# Altium schematic symbol library Diodo.SchLib: 49 symbols (part 1 of 2)
Pins are listed as number, name and electrical type; pins without a type are passive.

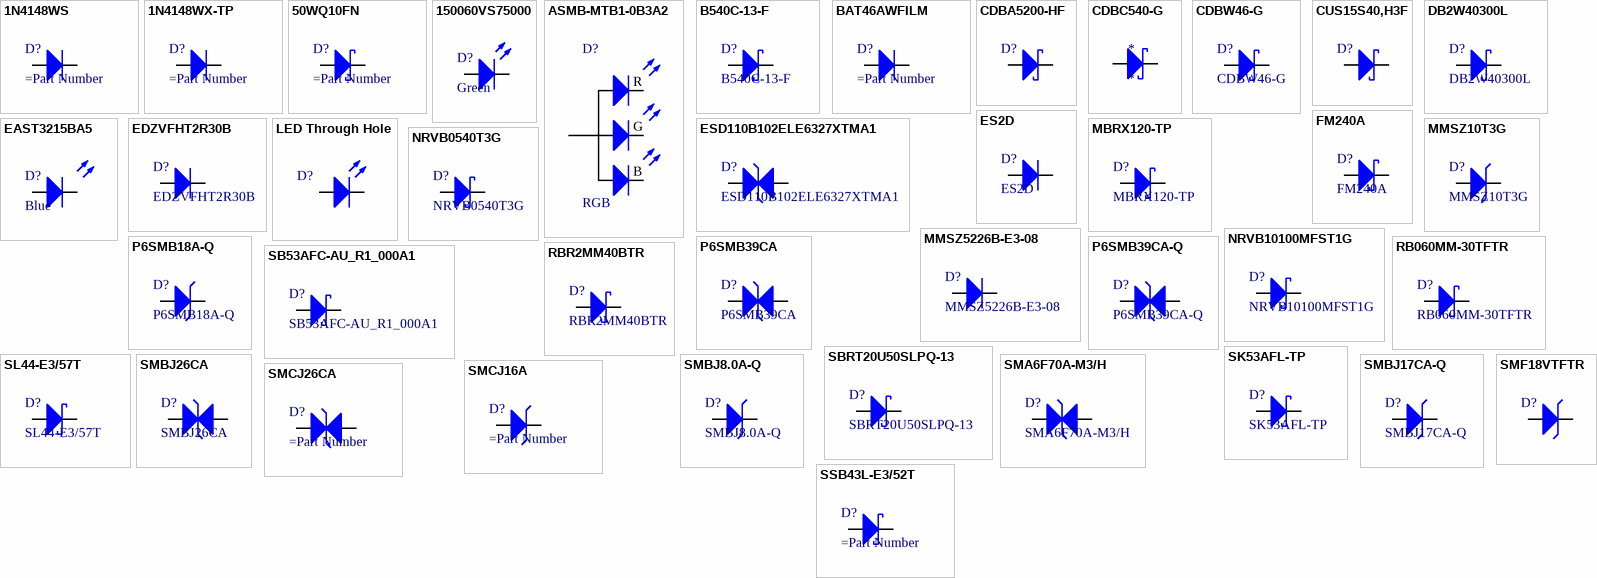
[diagram p0: symbols 1N4148WS to SSB43L-E3/52T]

## 1N4148WS
designator D?
DIODE GEN PURP 75V 0.15A SOD-323F-2; Manufacturer: onsemi; Manufacturer Part Number: 1N4148WS; Pirce: 1=0.20, 10=0.18, 100=0.095 [USD]; Max Forward Surge Current (Ifsm): 4 A; Current - Reverse Leakage @ Vr: 5 uA; Voltage - Forward (Vf) (Max) @ If: 1 V; Diode Type: General Purpose; Recovery Time: 4 ns; Library Control - Checked Footprint: Yes; Library Control - Person that Checked Footprint: Juliana; Supplier 1: Mouser; Category: General Purpose; Package / Case: SOD-323F-2; Current - Average Rectified (Io): 0.15 A; Operating Temperature: -55°C ~ +150°C; Voltage - DC Reverse (Vr) (Max): 75 V; Library Ref: Diode; Supplier Part Number 1: 512-1N4148WS; Library Control - Checked Schematic: Yes; Library Control - Last Update: 12/08/2022; Library Control - Person that Checked Schematic: Juliana; Library Control - Person that did the Last Update Footprint: Juliana; Library Control - Person that did the Last Update Schematic: Juliana; Power Dissipation: *; Speed: *; Capacitance @ Vr, F: *; ComponentLink1Description: Mouser Link; ComponentLink1URL: https://br.mouser.com/ProductDetail/onsemi-Fairchild/1N4148WS?qs=2%2FYqgE%252BHg%252BKBrKZlAsMLhw%3D%3D; ComponentLink2Description: Datasheet; ComponentLink2URL: https://www.onsemi.com/pdf/datasheet/1n4148ws-d.pdf
footprint SOD-323F-2
pins: 1 C, 2 A

## 1N4148WX-TP
designator D?
DIODE GEN PURP 75V 300mA SOD-323; Manufacturer: Micro Commercial Components; Manufacturer Part Number: 1N4148WX-TP; Max Forward Surge Current (Ifsm): 2 A; Current - Reverse Leakage @ Vr: 5 uA; Voltage - Forward (Vf) (Max) @ If: 1 V; Diode Type: General Purpose; Recovery Time: 4 ns; Library Control - Checked Footprint: Yes; Library Control - Person that Checked Footprint: Juliana; Supplier 1: Mouser; Category: General Purpose, Power, Switching; Price: 1=0.19, 10=0.173, 100=0.095 [USD]; Package / Case: SOD-323; Operating Temperature: -55°C ~ +150°C; Voltage - DC Reverse (Vr) (Max): 75 V; Library Ref: Diode; Supplier Part Number 1: 833-1N4148WX-TP; Library Control - Checked Schematic: Yes; Library Control - Last Update: 15/08/2022; Library Control - Person that Checked Schematic: Juliana; Library Control - Person that did the Last Update Footprint: Juliana; Library Control - Person that did the Last Update Schematic: Juliana; Power Dissipation: *; Speed: *; Capacitance @ Vr, F: *; ComponentLink1Description: Mouser Link; ComponentLink1URL: https://br.mouser.com/ProductDetail/Micro-Commercial-Components-MCC/1N4148WX-TP?qs=Vo7e0yZOYdH7fKyVBspYOg%3D%3D; ComponentLink2Description: Datasheet; ComponentLink2URL: https://br.mouser.com/datasheet/2/258/1N4148WX_SOD_323_-2510319.pdf
footprint SOD-323
pins: 1 C, 2 A

## 50WQ10FN
designator D?
DIODE SCHOTTKY 100V 5.5A TO-252AA; Manufacturer: Vishay; Manufacturer Part Number: 50WQ10FN; Max Forward Surge Current (Ifsm): 330 A; Current - Reverse Leakage @ Vr: 1 mA; Voltage - Forward (Vf) (Max) @ If: 910 mV; Diode Type: Schottky Diode; Library Control - Checked Footprint: Yes; Library Control - Person that Checked Footprint: Juliana; Supplier 1: Mouser; Category: Schottky Diodes & Rectifiers; Package / Case: D-Pak (TO-252AA); Current - Average Rectified (Io): 5.5 A; Operating Temperature: -40°C ~ +150°C; Voltage - DC Reverse (Vr) (Max): 100 V; Library Ref: Diode; Supplier Part Number 1: 844-50WQ10FN; Library Control - Checked Schematic: Yes; Library Control - Last Update: 12/08/2022; Library Control - Person that Checked Schematic: Juliana; Library Control - Person that did the Last Update Footprint: Juliana; Library Control - Person that did the Last Update Schematic: Juliana; Power Dissipation: *; Speed: *; Capacitance @ Vr, F: *; ComponentLink1Description: Mouser Link; ComponentLink1URL: https://br.mouser.com/ProductDetail/Vishay-Semiconductors/50WQ10FN?qs=hmVdEm9mfNch1tGAwNRyIQ%3D%3D; ComponentLink2Description: Datasheet; ComponentLink2URL: https://4donline.ihs.com/images/VipMasterIC/IC/VISH/VISH-S-A0003941566/VISH-S-A0003941566-1.pdf?hkey=6D3A4C79FDBF58556ACFDE234799DDF0
footprint TO-252AA
pins: A, C

## 150060VS75000
designator D?, comment Green
LED 72mW GREEN 40MCD 0603; Manufacturer: Wurth Elektronik; Part Number: 150060VS75000; Current - Forward (If): 20 mA; Voltage - Forward (Vf): 2 V; Viewing Angle: 140°; Wavelength: 570nm; Max Current Rating: 100mA; Reverse Voltage:: 5V; Library Control - Last Project that Used: Diodo/Led; Library Control - Person that Checked Footprint: Stéfany (Ster); Library Control - Person that did the Last Update Schematic: Marcos; Supplier 1: Mouser; Category: Standard LEDs - SMD; Price: 1 = 0.14, 50 = 0.133, 100 = 0.114 (USD); Package / Case: 0603; Color: Green; Operating Temperature: -40~85 °C; Luminous Intensity: 40 mcd; Library Ref: LED; Supplier Part Number 1: 710-150060VS75000; Max Power Dissipation: 72mW; Library Control - Checked Footprint: 25/07/2021; Library Control - Checked Schematic: 25/07/2021; Library Control - Last Update: 09/09/2021 16:12; Library Control - Person that Checked Schematic: Stéfany (Ster); Library Control - Person that did the Last Update Footprint: Stéfany (Ster); ComponentLink1Description: Mouser Link; ComponentLink1URL: https://br.mouser.com/ProductDetail/Wurth-Elektronik/150060VS75000?qs=%2Fha2pyFaduhuT%2FKGSijZP0vTyJZ9U993KfsBQSxqATYhY9jnc2c09tXoMoJ3wn4L; ComponentLink2Description: Datasheet Link; ComponentLink2URL: https://br.mouser.com/datasheet/2/445/150060VS75000-1714627.pdf
footprint LED_0603
pins: A, C

## ASMB-MTB1-0B3A2
designator D?, comment RGB
LED 65 mW, 90 mW RGB SMD PLCC4; Manufacturer: Broadcom Avago; Part Number: ASMB-MTB1-0B3A2; Current - Forward (If): 20 mA, 20 mA, 20 mA; Max Power Dissipation: 65 mW, 90 mW, 90 mW; Wavelenght: 625 nm, 530 nm, 470 nm; Voltage - Forward (Vf): 2.1 V, 3.1 V, 3.1 V; Viewing Angle: 115°; Library Control - Person that did the Last Update Schematic: Tatá; Supplier: Mouser; Supplier Part Number: 630-ASMB-MTB1-0B3A2; Category: RGB LEDs; Package / Case: PLCC-4; Color: RGB; Price: 1= $0.67 10 =$0.438 100=$0.29 (USD); Operating Temperature: -40 ~ 100 C; Library Ref: LED; Library Control - Person that did the Last Update Footprint: Tatá; Library Control - Person that Checked Schematic: *; Library Control - Person that Checked Footprint: *; Library Control - Last Update: 19/11/23; Library Control - Last Project that Used: *; Library Control - Checked Schematic: *; Library Control - Checked Footprint: *; ComponentLink1Description: Mouser; ComponentLink1URL: https://br.mouser.com/ProductDetail/Broadcom-Avago/ASMB-MTB1-0B3A2?qs=pUKx8fyJudDzsc2Rt%2Fv8dg%3D%3D; ComponentLink2Description: Datasheet; ComponentLink2URL: https://docs.broadcom.com/doc/AV02-4194EN
footprint PLCC4 RGB LED
pins: B Blue, G Green, R Red, VCC  

## B540C-13-F
designator D?
DIODE SCHOTTKY 40V 5A DO-214AB; Manufacturer: Diodes Incorporated; Max Forward Surge Current (Ifsm): 100 A; Current - Reverse Leakage @ Vr: 500 uA; Voltage - Forward (Vf) (Max) @ If: 550 mV; Diode Type: Schottky Barrier Rectifier; Library Control - Checked Footprint: yes; Library Control - Person that did the Last Update Footprint: Dalarme; Library Control - Person that did the Last Update Schematic: Stéfany(Ster); Capacitance @ Vr, F: 300 pF @ 4V, 1MHz; Supplier 1: Mouser; Part Number: B540C-13-F; Category: Schottky Diodes & Rectifiers; Price: 1 = 0,53, 10 = 0,454, 100 = 0,339 (USD); Package / Case: SMC (DO-214AB); Current - Average Rectified (Io): 5 A; Operating Temperature: - 55ºC ~ 125ºC; Voltage - DC Reverse (Vr) (Max): 40 V; Library Ref: Diode; Supplier Part Number 1: 621-B540C-F; Library Control - Checked Schematic: yes; Library Control - Last Update: 21/06/2021 13:20; ComponentLink1Description: Mouser Link; ComponentLink1URL: https://www.mouser.com/ProductDetail/Diodes-Incorporated/B540C-13-F?qs=%2Fha2pyFadugB25bXQPJfFXI5hzpNpnVpraRSN9VwgHc%3D; ComponentLink2Description: Datasheet; ComponentLink2URL: https://www.mouser.com/datasheet/2/115/ds13012-73423.pdf
footprint DIODO_DO-214AB
pins: A, C

## BAT46AWFILM
designator D?
DIODE SCHOTTKY 75V 0.15A SOT-323-2; Manufacturer: STMicroelectronics; Manufacturer Part Number: BAT46AWFILM; Pirce: 1=0.20, 10=0.18, 100=0.095 [USD]; Max Forward Surge Current (Ifsm): 1 A; Current - Reverse Leakage @ Vr: 5 uA; Voltage - Forward (Vf) (Max) @ If: 1 V; Voltage - DC Reverse (Vr) (Max): 100V; Diode Type: General Purpose; Recovery Time: 4 ns; Library Control - Checked Footprint: Yes; Supplier 1: Mouser; Category: General Purpose; Package / Case: SOT-323-2; Current - Average Rectified (Io): 0.15 A; Operating Temperature: -55°C ~ +150°C; Library Ref: Diode; Supplier Part Number 1: 511-BAT46AWFILM; Library Control - Checked Schematic: Yes; ComponentLink1Description: Mouser Link; ComponentLink1URL: https://br.mouser.com/ProductDetail/STMicroelectronics/BAT46AWFILM?qs=jZi1jxfVU95kjrv6mtzUxA%3D%3D; ComponentLink2Description: Datasheet; ComponentLink2URL: https://br.mouser.com/datasheet/2/389/cd00004930-1796035.pdf
footprint SOT-323-2
pins: 1 A, 2 C

## CDBA5200-HF
designator D?  (value not drawn)
DIODE SCHOTTKY 200V 5A  DO-214AC-2; Manufacturer: Comchip Technology; Current - Reverse Leakage @ Vr: 200uA @ 40V; Voltage - Forward (Vf) (Max) @ If: 550mV @ 1,5A; Library Control - Checked Footprint: Yes; Library Control - Person that Checked Footprint: Stéfany (Ster); Library Control - Person that did the Last Update Schematic: Maria Laura; Supplier 1: Mouser; Part Number: CDBA5200-HF; Category: Schottky Diodes & Rectifiers; Price: 1 = 0,40; 10 = 0,308; 100 = 0,175 (USD); Package / Case: DO-214AC-2; Operating Temperature: -55°C ~ +125°C; Max Forward Surge Current (Ifsm): 5 A; Voltage - DC Reverse (Vr) (Max): 200 V; Diode Type: Schottky; Library Ref: Diodo/Led; Supplier Part Number 1: 750-CDBA5200-HF; Recovery Time: -; Library Control - Checked Schematic: Yes; Library Control - Last Update: 01/09/2021 21:01; Library Control - Person that Checked Schematic: Stéfany (Ster); Power Dissipation: -; Speed: -; ComponentLink1Description: Datasheet; ComponentLink1URL: https://br.mouser.com/datasheet/2/80/CDBA540_HF_Thru505878__CDBA5200_HF_RevC-2504824.pdf; ComponentLink2Description: Mouser Link; ComponentLink2URL: https://br.mouser.com/ProductDetail/Comchip-Technology/CDBA5200-HF?qs=XEIV%2Fho1H6e7YYzh7PcOrA%3D%3D
footprint DO-214AC-2
pins: 1, 2

## CDBC540-G
designator *
DIODE SCHOTTKY 40V 5A DO-214AB-2; Manufacturer: Comchip; Manufacturer Part Number: CDBC540-G; Diode Element Material: SILICON; Package Body Material: Plastic; Application(s): GENERAL PURPOSE; Diode Type: RECTIFIER; Non-rep Pk Forward Current-Max: 100A; Number of Elements: 1; Time @ Peak Reflow Temperature-Max (s): 30s; Supplier: Digikey; Supplier Part Number: 641-1126-1-ND; RoHS: Yes; Category: Rectifier Diodes; Stock: 234819; Pricing: 1=0,79, 10=0,53, 100=0,3636, 500=0,28806, 1000=0,2632 (USD); Pins: 2; Package Shape: Rectangular; Min Operating Temperature: -40°C; Max Operating Temperature: 125°C; JESD-30 Code: R-PDSO-C2; Number of Phases: 1; Max Output current: 5A; Package Style: SMALL OUTLINEMeter; Peak Reflow Temperature (Cel): 260°C; Rep Pk Reverse Voltage-Max: 40V; Surface Mount: Yes; Technology: SCHOTTKY; Terminal Form: C BEND; Terminal Position: DUAL; JEDEC-95 Code: DO-214AB; Reach SVHC Compliant: Yes; RoHS Compliant: Yes; ComponentLink1URL: https://datasheet.ciiva.com:443/pdfs/VipMasterIC/IC/COMC/COMCS00690/COMCS00690-1.pdf?src-supplier=IHS+Markit; ComponentLink1Description: https://datasheet.ciiva.com:443/pdfs/VipMasterIC/IC/COMC/COMCS00690/COMCS00690-1.pdf?src-supplier=IHS+Markit; ComponentLink2URL: https://datasheet.ciiva.com/914/cdbc520-gthru936981-cdbc5100-grevc-914747.pdf?src-supplier=Digikey; ComponentLink2Description: https://datasheet.ciiva.com/914/cdbc520-gthru936981-cdbc5100-grevc-914747.pdf?src-supplier=Digikey; ComponentLink3URL: https://datasheet.ciiva.com/914/cdbc520-gthru936981-cdbc5100-grevc-914748.pdf?src-supplier=Digikey; ComponentLink3Description: https://datasheet.ciiva.com/914/cdbc520-gthru936981-cdbc5100-grevc-914748.pdf?src-supplier=Digikey; ComponentLink4URL: https://datasheet.ciiva.com/914/cdbc520-gthru936981-cdbc5100-grevc-914749.pdf?src-supplier=Digikey; ComponentLink4Description: https://datasheet.ciiva.com/914/cdbc520-gthru936981-cdbc5100-grevc-914749.pdf?src-supplier=Digikey
footprint DIODO-DO-214AB-2
pins: 1, 2

## CDBW46-G
designator D?
DIODE SCHOTTKY 100V 150mA CDBW46-G; Manufacturer: Comchip Technology; Current - Average Rectified (Io): 5.5 A; Current - Reverse Leakage @ Vr: 2 uA; Voltage - Forward (Vf) (Max) @ If: 1V; Diode Type: Schottky Diode; Library Control - Checked Footprint: Yes; Library Control - Person that Checked Footprint: Juliana; Supplier 1: Mouser; Part Number: CDBW46-G; Category: Schottky Diodes & Rectifiers; Package / Case: SOD-123-2; Operating Temperature: -40°C ~ +150°C; Max Forward Surge Current (Ifsm): 150 mA; Voltage - DC Reverse (Vr) (Max): 100 V; Library Ref: Diode; Supplier Part Number 1: 750-CDBW46-G; Library Control - Checked Schematic: Yes; Library Control - Last Update: 12/08/2022; Library Control - Person that Checked Schematic: Juliana; Library Control - Person that did the Last Update Footprint: Juliana; Library Control - Person that did the Last Update Schematic: Juliana; Power Dissipation: *; Speed: *; Capacitance @ Vr, F: *; ComponentLink1Description: Mouser Link; ComponentLink1URL: https://br.mouser.com/ProductDetail/Comchip-Technology/CDBW46-G?qs=XEIV%2Fho1H6e1YlKRlHz%2Fyw%3D%3D; ComponentLink2Description: Datasheet; ComponentLink2URL: https://br.mouser.com/datasheet/2/80/CDBW46_G_RevC-2505191.pdf
footprint SOD-123-2
pins: A, C

## CUS15S40,H3F
designator D?  (value not drawn)
DIODE SCHOTTKY 40V 1.5A USC-2; Manufacturer: Toshiba; Current - Average Rectified (Io): 1,5 A; Max Forward Surge Current (Ifsm): 5 A; Current - Reverse Leakage @ Vr: 200uA @ 40V; Voltage - Forward (Vf) (Max) @ If: 550mV @ 1,5A; Library Control - Checked Footprint: Yes; Library Control - Person that Checked Footprint: Stéfany (Ster); Library Control - Person that did the Last Update Schematic: Maria Laura; Capacitance @ Vr, F: 170pF @ (Vr = 0V/ 1MHz); Supplier 1: Mouser; Part Number: CUS15S40,H3F; Category: Schottky Diodes & Rectifiers; Price: 1 = 0,40; 10 = 0,308; 100 = 0,175 (USD); Package / Case: USC-2; Operating Temperature: -55°C ~ +125°C; Voltage - DC Reverse (Vr) (Max): 40 V; Diode Type: Schottky; Library Ref: Diodo/Led; Supplier Part Number 1: 757-CUS15S40H3F; Recovery Time: -; Library Control - Checked Schematic: Yes; Library Control - Last Update: 01/09/2021 21:01; Library Control - Person that Checked Schematic: Stéfany (Ster); Power Dissipation: -; Speed: -; ComponentLink1Description: Datasheet; ComponentLink1URL: https://br.mouser.com/datasheet/2/408/CUS15S40_datasheet_en_20140407-1916266.pdf; ComponentLink2Description: Mouser Link; ComponentLink2URL: https://br.mouser.com/ProductDetail/Toshiba/CUS15S40H3F?qs=cW4DzVrAanMQz2MiFk1iLw%3D%3D
footprint DIODO_USC-2
pins: A, C

## DB2W40300L
designator D?
DIODE SCHOTTKY 40V 3A MINI2-F3-B; Manufacturer: Panasonic; Max Forward Surge Current (Ifsm): 30 A; Current - Reverse Leakage @ Vr: 250 uA @ 40V; Voltage - Forward (Vf) (Max) @ If: 540 mV @ 3A; Recovery Time: 15 ns; Library Control - Checked Footprint: Yes; Library Control - Person that Checked Footprint: Lucas; Library Control - Person that did the Last Update Schematic: Stéfany (Ster); Capacitance @ Vr, F: 50pF (Vr = 10V, f = 1MHz); Supplier 1: Mouser; Part Number: DB2W40300L; Category: Schottky Diodes & Rectifiers; Price: Was not available; Package / Case: Mini2-F3-B; Current - Average Rectified (Io): 3 A; Operating Temperature: - 55 C ~ + 150 C; Voltage - DC Reverse (Vr) (Max): 40 V; Diode Type: Schottky; Library Ref: Diodo/Led; Supplier Part Number 1: 667-DB2W40300L; Library Control - Checked Schematic: Yes; Library Control - Last Update: 13/06/2021 13:22; Library Control - Person that Checked Schematic: Lucas; ComponentLink1Description: Mouser Link; ComponentLink1URL: https://br.mouser.com/ProductDetail/Panasonic/DB2W40300L?qs=ZLoPbQp0lqx30DYaaT0Zjg%3D%3D; ComponentLink2Description: Datasheet; ComponentLink2URL: https://br.mouser.com/datasheet/2/315/DB2W40300L_E-1141713.pdf
footprint DIODO_Mini2-F3-B
pins: A, C

## EAST3215BA5
designator D?, comment Blue
LED 75mW BLUE 45MCD 3215; Manufacturer: Everlight Electronics; Part Number: EAST3215BA5; Current - Forward (If): 20 mA; Voltage - Forward (Vf): 3,30 V; Viewing Angle: 130°; Wavelength: 468 nm; Reverse Voltage: 5 V; Library Control - Checked Footprint: yes; Library Control - Person that Checked Footprint: Lucas; Library Control - Person that did the Last Update Footprint: Stéfany (Ster); Supplier 1: Mouser; Category: Standard LEDs - SMD; Price: 1 = 0,3800, 10 = 0,2050, 100 = 0.1080 (USD); Package / Case: 3215; Color: Blue; Operating Temperature: - 40 °C ~ 85 °C; Luminous Intensity: 45 mcd; Library Ref: Diodo/Led; Supplier Part Number 1: 638-EAST3215BA5; Max Power Dissipation: 75 mW; Max Current Rating: 20 mA; Library Control - Checked Schematic: yes; Library Control - Last Update: 13/06/2021 12:45; Library Control - Person that Checked Schematic: Lucas; Library Control - Person that did the Last Update Schematic: Stéfany (Ster); ComponentLink1Description: Mouser Link; ComponentLink1URL: https://www.mouser.com/ProductDetail/Everlight/EAST3215BA5?qs=Cqqh%252BS766wnzp9nQVj5A4g==; ComponentLink2Description: Datasheet; ComponentLink2URL: https://www.mouser.com/datasheet/2/143/EAST3215BA5-1154292.pdf
footprint DIODO_2-SMD-3215
pins: A, C

## EDZVFHT2R30B
designator D?
DIODE ZENER 30V 0.1uA SOD-523-2; Manufacturer: ROHM Semiconductor; Power Dissipation: 150mW; Supplier 1: Mouser; Part Number: EDZVFHT2R30B; Category: Zener Diodes & Rectifiers; Price: 1 = 0,29, 100 = 0.126 (USD); Package / Case: SOD-523-2; Current - Average Rectified (Io): 0.1uA; Operating Temperature: - 65 °C ~ 150 °C; Current - Reverse Leakage @ Vr: 0.1uA; Voltage - Forward (Vf) (Max) @ If: -; Voltage - DC Reverse (Vr) (Max): 30V; Diode Type: Zener; Library Ref: Diodo/Led; Supplier Part Number 1: 755-EDZVFHT2R30B; ComponentLink1Description: Mouser Link; ComponentLink1URL: https://br.mouser.com/ProductDetail/ROHM-Semiconductor/EDZVFHT2R30B?qs=4v%252BiZTmLVHEeNO3n08e71A%3D%3D; ComponentLink2Description: Datasheet; ComponentLink2URL: https://br.mouser.com/datasheet/2/348/ROHM_S_A0011946476_1-2563380.pdf
footprint SOD-523-2
pins: 1, 2

## ES2D
designator D?
DIODE RECTIFIER 200V 2A DO-214AA; Manufacturer: ON Semiconductor / Fairchild; Max Forward Surge Current (Ifsm): 50 A; Current - Reverse Leakage @ Vr: 10 uA; Voltage - Forward (Vf) (Max) @ If: 0.9 @ 2A; Diode Type: Fast Recovery Rectifiers; Recovery Time: 20 ns; Library Control - Checked Footprint: No; Library Control - Checked Schematic: Yes; Library Control - Person that Checked Footprint: Lucas; Library Control - Person that did the Last Update Footprint: Dalarme; Library Control - Person that did the Last Update Schematic: Stéfany (Ster), Lucas; Power Dissipation: 1.66 W; Capacitance @ Vr, F: 18pF @ 4V, 1MHz; Supplier 1: Mouser; Part Number: ES2D; Category: Rectifiers; Price: 1 = 0,43, 10 = 0,357, 100 = 0,243 (USD); Package / Case: DO-214AA; Current - Average Rectified (Io): 2 A; Operating Temperature: - 55ºC ~ 150ºC; Voltage - DC Reverse (Vr) (Max): 200 V; Library Ref: Diodo/Led; Supplier Part Number 1: 512-ES2D; Library Control - Last Update: 21/06/2021 16:00; Library Control - Person that Checked Schematic: Lucas; ComponentLink1Description: Datasheet; ComponentLink1URL: https://www.mouser.com/datasheet/2/308/1/ES2D_D-2311494.pdf; ComponentLink2Description: Mouser Link; ComponentLink2URL: https://www.mouser.com/ProductDetail/ON-Semiconductor-Fairchild/ES2D/?qs=3kCnFMRqPtEmDfWv8SnLIg%3D%3D
footprint DIODO_DO-214AA
pins: A, C

## ESD110B102ELE6327XTMA1
designator D?
DIODE TVS 26V 14.2A DO-214AA-2; Manufacturer: Infineon; Voltage - DC Reverse (Vr) (Max): -15 V - 15 V; Library Control - Checked Footprint: No; Library Control - Person that did the Last Update Footprint: Nikaum; Power Dissipation: 58 W; Supplier 1: Mouser; Part Number: ESD110B102ELE6327XTMA1; Category: ESD Suppressors / TVS Diodes; Price: 1 = 0,48, 10 = 0,36, 100 = 0,225 (USD); Package / Case: TSLP-2; Operating Temperature: - 40ºC ~ 125ºC; Diode Type: TVS; Library Ref: Diode; Supplier Part Number 1: 726-ESD110B102ELE632; Library Control - Checked Schematic: No; Library Control - Last Update: 13/06/2021 13:28; Library Control - Person that did the Last Update Schematic: Nikaum; ComponentLink1Description: Datasheet; ComponentLink1URL: https://www.mouser.com/datasheet/2/196/Infineon-ESD110-B1-02series-DS-v01_04-EN-1731333.pdf; ComponentLink2Description: Mouser Link; ComponentLink2URL: https://www.mouser.com/ProductDetail/Infineon-Technologies/ESD110B102ELE6327XTMA1?qs=%2Fha2pyFaduiogV8KDD5PH1He7eBI5EnoxEmNaeUv4GVgUCwgbnNdrWufEfAgVCzv
footprint DIODO-TSSLP-2-4
pins: A, C

## FM240A
designator D?
DIODE SCHOTTKY 40V 2A DO-214AC; Manufacturer: Rectron; Current - Average Rectified (Io): 3 A; Max Forward Surge Current (Ifsm): 30 A; Current - Reverse Leakage @ Vr: 250 uA @ 40V; Voltage - Forward (Vf) (Max) @ If: 540 mV @ 3A; Recovery Time: 15 ns; Library Control - Checked Footprint: Yes; Library Control - Person that Checked Footprint: Lucas; Library Control - Person that did the Last Update Schematic: Stéfany (Ster); Capacitance @ Vr, F: 50pF (Vr = 10V, f = 1MHz); Supplier 1: Mouser; Part Number: FM240A; Category: Schottky Diodes & Rectifiers; Price: 1=0,12$, 25=0,115; Package / Case: Mini2-F3-B; Operating Temperature: - 55 C ~ + 150 C; Voltage - DC Reverse (Vr) (Max): 40 V; Diode Type: Schottky; Library Ref: Diodo/Led; Supplier Part Number 1: 667-DB2W40300L; Library Control - Checked Schematic: Yes; Library Control - Last Update: 13/06/2021 13:22; Library Control - Person that Checked Schematic: Lucas; ComponentLink1Description: Mouser Link; ComponentLink1URL: https://br.mouser.com/ProductDetail/Rectron/FM240A?qs=7pEAo90IqNG7sknZwmLYhQ%3D%3D; ComponentLink2Description: Datasheet; ComponentLink2URL: https://br.mouser.com/datasheet/2/345/fm220a-fm2100a-28696.pdf
footprint DIODO-DO-214AC (Molded Diode, 2-Leads, Body 4,31x2,18mm, IPC Medium Density)
pins: 1 A, 2 C

## LED Through Hole
designator D?
Through Hole LED; ComponentLink1Description: Mouser Link; ComponentLink1URL: *; ComponentLink2Description: Datasheet; ComponentLink2URL: *
footprint Through Hole LED
pins: 1, 2

## MBRX120-TP
designator D?
DIODE SCHOTTKY 20V 1A SOD123; Manufacturer: Micro Commercial Components (MCC); Max Forward Surge Current (Ifsm): 20 A; Current - Reverse Leakage @ Vr: 300uA @ 20V; Voltage - Forward (Vf) (Max) @ If: 500mV @ 1A; Library Control - Checked Footprint: Yes; Library Control - Person that Checked Footprint: Lucas; Library Control - Person that did the Last Update Schematic: Stéfany (Ster), Lucas; Capacitance @ Vr, F: 30pF @ (Vr = 4V/ 1MHz); Supplier 1: Mouser; Part Number: MBRX120-TP; Category: Schottky Diodes & Rectifiers; Price: -; Package / Case: SOD-123; Current - Average Rectified (Io): 1 A; Operating Temperature: -55°C ~ +125°C; Voltage - DC Reverse (Vr) (Max): 20 V; Diode Type: Schottky; Library Ref: Diodo/Led; Supplier Part Number 1: 833-MBRX120-TP; Library Control - Checked Schematic: Yes; Library Control - Last Update: 23/06/2021 18:00; Library Control - Person that Checked Schematic: Lucas; ComponentLink1Description: Datasheet; ComponentLink1URL: https://br.mouser.com/datasheet/2/258/MBRX120-MBRX160(SOD123)-1626348.pdf; ComponentLink2Description: Mouser Link; ComponentLink2URL: https://br.mouser.com/ProductDetail/Micro-Commercial-Components-MCC/MBRX120-TP?qs=Oupk%2FUD005ioyDrI8%2F20eg%3D%3D
footprint DIODO_SOD123
pins: A, C

## MMSZ10T3G
designator D?
Zener Diode, 10V V(Z), 5%, 0.5W, Silicon, Unidirectional; Manufacturer: ON Semiconductor; Package Body Material: Plastic; Dynamic Impedance-Max: 20R; Number of Elements: 1; Max Power Dissipation: 500mW; Time @ Peak Reflow Temperature-Max (s): 40s; Test Current: 5mA; Qualification Status: Not Qualified; Parameter 1: *; Supplier: Mouser; Supplier Part Number: 863-MMSZ10T3G; Part Number: MMSZ10T3G; RoHS: Yes; Category: Zener Diodes; Stock: 9957; Pricing: 1=0,27, 10=0,266, 50=0,266, 100=0,131, 1000=0,075, 10000=0,033 (USD); Pins: 2; Terminal Finish: Tin; Diode Element Material: SILICON; Package Shape: Rectangular; Max Operating Temperature: 150°C; JESD-609 Code: e3; Diode Type: ZENER; Moisture Sensitivity Level: 1; Polarity: Unidirectional; JESD-30 Code: R-PDSO-G2; Package Style: SMALL OUTLINEMeter; Peak Reflow Temperature (Cel): 260°C; Reference Voltage-Nom: 10V; Surface Mount: Yes; Technology: ZENER; Terminal Form: Gull Wing; Terminal Position: DUAL; Voltage Tol-Max: 5%; Reach SVHC Compliant: Yes; RoHS Compliant: Yes; ComponentLink1URL: https://datasheet.ciiva.com:443/pdfs/VipMasterIC/IC/ONSM/ONSMS21452/ONSMS21452-1.pdf?src-supplier=IHS+Markit; ComponentLink1Description: https://datasheet.ciiva.com:443/pdfs/VipMasterIC/IC/ONSM/ONSMS21452/ONSMS21452-1.pdf?src-supplier=IHS+Markit; ComponentLink2URL: https://datasheet.ciiva.com/903/mmsz2v4t1-d-903972.pdf?src-supplier=Digikey; ComponentLink2Description: https://datasheet.ciiva.com/903/mmsz2v4t1-d-903972.pdf?src-supplier=Digikey
footprint SOD-123-2 (Footprint MMSZ10T3G)
pins: A, C

## MMSZ5226B-E3-08
designator D?
DIODE ZENER 3.3V 25uA SOD123; Manufacturer: Vishay; Current - Reverse Leakage @ Vr: 25 uA @ 1V; Voltage - Forward (Vf) (Max) @ If: 0.9 V @ 10mA; Library Control - Checked Schematic: Yes; Library Control - Person that Checked Footprint: Lucas; Library Control - Person that did the Last Update Schematic: Stéfany (Ster); Power Dissipation: 1/2W; Supplier 1: Mouser; Part Number: MMSZ5226B-E3-08; Category: Zener Diode; Price: 1 = 0.29; 10 = 0.237; 100 = 0.126; 500 = 0.083; 1000 = 0.057 (USD); Package / Case: SOD-123; Current - Average Rectified (Io): -; Operating Temperature: -55 C ~ +150 C; Max Forward Surge Current (Ifsm): -; Voltage - DC Reverse (Vr) (Max): 3.3V; Diode Type: Zener; Library Ref: Diodo/Led; Supplier Part Number 1: 78-MMSZ5226B-E3-08; Library Control - Last Update: 23/06/2021 12:00; Library Control - Person that Checked Schematic: Lucas; Speed: -; Capacitance @ Vr, F: -; ComponentLink1Description: Datasheet; ComponentLink1URL: https://br.mouser.com/datasheet/2/427/mmsz5225-1767504.pdf; ComponentLink2Description: Mouser Link; ComponentLink2URL: https://br.mouser.com/ProductDetail/Vishay-Semiconductors/MMSZ5226B-E3-08?qs=S660mHfF5o2fNwMZKpNVmg%3D%3D
footprint DIODO_SOD123
pins: A, C

## NRVB0540T3G
designator D?
DIODE SCHOTTKY 40V 500mA SOD-123; Manufacturer: ON Semiconductor; Max Forward Surge Current (Ifsm): 5.5 A; Current - Reverse Leakage @ Vr: 20 uA; Voltage - Forward (Vf) (Max) @ If: 510 mV; Library Control - Person that Checked Footprint: Nícolas; Supplier 1: Mouser; Manufacturer Part Number: NRVB0540T3G; Category: Schottky Diodes & Rectifiers; Price: 1 = 0.42, 10 = 0.341, 100 = 0.233 (USD); Package / Case: SOD-123; Current - Average Rectified (Io): 500mA; Operating Temperature: -55~150° C; Voltage - DC Reverse (Vr) (Max): 40 V; Diode Type: Schottky; Library Ref: Diodo/Led; Supplier Part Number 1: 863-NRVB0540T3G; Recovery Time: -; Library Control - Checked Footprint: 25/07/2021; Library Control - Checked Schematic: 25/07/2021; Library Control - Last Update: 25/07/2021; Library Control - Person that Checked Schematic: Nícolas; Library Control - Person that did the Last Update Footprint: Nícolas; Library Control - Person that did the Last Update Schematic: Nícolas; Power Dissipation: -; Speed: -; Capacitance @ Vr, F: -; ComponentLink1Description: Mouser Link; ComponentLink1URL: https://br.mouser.com/ProductDetail/ON-Semiconductor/NRVB0540T3G?qs=JZRcihQa5bv2BoZB9hCl7w%3D%3D; ComponentLink2Description: Datasheet; ComponentLink2URL: https://br.mouser.com/datasheet/2/308/1/MBR0540T1_D-2315389.pdf
footprint DIODO_SOD123
pins: A, C

## NRVB10100MFST1G
designator D?
DIODE SCHOTTKY 100V 10A SO-8FL; Manufacturer: ON Semiconductor; Max Forward Surge Current (Ifsm): 150 A; Current - Reverse Leakage @ Vr: 13 mA @ 100 V; Voltage - Forward (Vf) (Max) @ If: 950 mV @ 10 A, 25ºC; Library Control - Checked Footprint: Yes; Library Control - Person that Checked Footprint: Lucas; Library Control - Person that did the Last Update Schematic: Stéfany (Ster), Lucas; Supplier 1: Mouser; Part Number: NRVB10100MFST1G; Category: Schottky Diodes & Rectifiers; Price: 1 = 0.99; 10 = 0.894; 100 = 0.697; 500 = 0.576; 1000 = 0.455 (USB); Package / Case: SO−8 FL; Current - Average Rectified (Io): 10 A; Operating Temperature: -55ºC ~ +175ºC; Voltage - DC Reverse (Vr) (Max): 100 V; Diode Type: Schottky; Library Ref: Diodo/Led; Supplier Part Number 1: 863-NRVB10100MFST1G; Recovery Time: -; Library Control - Checked Schematic: Yes; Library Control - Last Project that Used: -; Library Control - Last Update: 24/06/2021 14:30; Library Control - Person that Checked Schematic: Lucas; Library Control - Person that did the Last Update Footprint: Lucas; Power Dissipation: -; Speed: -; Capacitance @ Vr, F: -; ComponentLink1Description: Datasheet; ComponentLink1URL: https://br.mouser.com/datasheet/2/308/1/MBR10100MFS_D-2315390.pdf; ComponentLink2Description: Mouser Link; ComponentLink2URL: https://br.mouser.com/ProductDetail/ON-Semiconductor/NRVB10100MFST1G?qs=l5F7KFZg3O4lNNhz0h6qOQ%3D%3D
footprint DIODO_SO-8FL
pins: A, C

## P6SMB18A-Q
designator D?
DIODE TVS 25.5V 1mA DO-214AA-2; Manufacturer: Bourns; Breakdown Voltage: 17.1V~18.9V; Maximum Peak Pulse Current: 24.2A; Library Control - Checked Footprint: yes; Library Control - Person that did the Last Update Footprint: Raquel; Power Dissipation: 600W; Supplier 1: Mouser; Part Number: P6SMB18A-Q; Category: TVS diode; Price: 1 = 0,54; 10 = 0,439; 100 = 0,30 (USD); Package / Case: DO-214AA-2; Current - Average Rectified (Io): 1mA; Operating Temperature: -55C~150C; Maximum Clamping Voltage: 25.5V; Diode Type: TVS; Library Ref: Diodo; Supplier Part Number 1: 652-P6SMB18A-Q; Library Control - Checked Schematic: yes; Library Control - Last Update: 05/09/21; Library Control - Person that did the Last Update Schematic: Raquel; ComponentLink1Description: Mouser Link; ComponentLink1URL: https://www.mouser.com/ProductDetail/Bourns/P6SMB18A-Q?qs=%2Fha2pyFaduj6sslbFWsHroIGArveJDhvrCjXD%2Fd7SKpEaHrm6t3HHg%3D%3D; ComponentLink2Description: Datasheet; ComponentLink2URL: https://www.mouser.com/datasheet/2/54/bourns_07102019_P6SMB-Q-1621328.pdf
footprint DIODO_DO-214AA-2
pins: A, C

## P6SMB39CA
designator D?
DIODE TVS 39V 11.3A DO-214AA-2; Manufacturer: Bourns; Max Forward Surge Current (Ifsm): 100 A; Current - Reverse Leakage @ Vr: 1uA @ 33.3V; Voltage - Forward (Vf) (Max) @ If: 3.5V; Voltage - DC Reverse (Vr) (Max): 33.3V; Library Control - Checked Footprint: Yes; Library Control - Checked Schematic: No; Library Control - Person that Checked Footprint: Lucas; Library Control - Person that did the Last Update Footprint: Dalarme; Power Dissipation: 600W; Supplier 1: Mouser; Part Number: P6SMB39CA; Category: ESD Suppressors / TVS Diodes; Price: 1 = 0,41, 10 = 0,336, 100 = 0,229 (USD); Package / Case: DO-214AA-2; Current - Average Rectified (Io): -; Operating Temperature: - 55ºC ~ 150ºC; Diode Type: TVS; Library Ref: Diodo\Led; Supplier Part Number 1: 652-P6SMB39CA; Library Control - Last Update: 22/06/2021 13:25; Library Control - Person that did the Last Update Schematic: Lucas; ComponentLink1Description: Datasheet; ComponentLink1URL: https://www.mouser.com/datasheet/2/54/p6smb-778327.pdf; ComponentLink2Description: Mouser Link; ComponentLink2URL: https://www.mouser.com/ProductDetail/Bourns/P6SMB39CA/?qs=QB0ovJDgFgtiFaaTMWjDJQ%3D%3D
footprint DIODO_DO-214AA-2
pins: A, C

## P6SMB39CA-Q
designator D?
DIODE TVS 39V 11.3A DO-214AA-2; Manufacturer: Bourns; Max Forward Surge Current (Ifsm): 100 A; Current - Reverse Leakage @ Vr: 1uA @ 33.3V; Voltage - Forward (Vf) (Max) @ If: 3.5A; Voltage - DC Reverse (Vr) (Max): 33.3V; Library Control - Checked Footprint: Yes; Library Control - Checked Schematic: No; Library Control - Person that Checked Footprint: Lucas; Library Control - Person that did the Last Update Footprint: Dalarme; Power Dissipation: 600W; Supplier 1: Mouser; Part Number: P6SMB39CA-Q; Category: ESD Suppressors / TVS Diodes; Price: 1 = 0,45, 10 = 0,392, 100 = 0,293 (USD); Package / Case: DO-214AA-2; Operating Temperature: - 55ºC ~ 150ºC; Diode Type: TVS; Library Ref: Diode; Supplier Part Number 1: 652-P6SMB39CA-Q; Library Control - Last Update: 22/06/2021 15:30; Library Control - Person that did the Last Update Schematic: Lucas; ComponentLink1Description: Mouser Link; ComponentLink1URL: https://www.mouser.com/ProductDetail/Bourns/P6SMB39CA-Q?qs=%2Fha2pyFadujVSMAwOBID0u9QtUOfmJK0gh9clqSE1MgNnqn%2F0xHKUQ%3D%3D; ComponentLink2Description: Datasheet; ComponentLink2URL: https://www.mouser.com/datasheet/2/54/bourns_07102019_P6SMB-Q-1621328.pdf
footprint DIODO_DO-214AA-2
pins: A, C

## RB060MM-30TFTR
designator D?
DIODE SCHOTTKY 30V 2A SOD-123FL; Manufacturer: ROHM Semiconductor; Max Forward Surge Current (Ifsm): 55 A; Current - Reverse Leakage @ Vr: 50uA @ 30V; Voltage - Forward (Vf) (Max) @ If: 440mV @ 2A; Library Control - Checked Footprint: Yes; Library Control - Person that Checked Footprint: Nícolas; Supplier 1: Mouser; Part Number: RB060MM-30TFTR; Category: Schottky Diodes & Rectifiers; Price: 1 = 0.56, 10 = 0.485, 100 = 0.363 (USD); Package / Case: SOD-123FL; Current - Average Rectified (Io): 2 A; Operating Temperature: -55°C~125°C; Voltage - DC Reverse (Vr) (Max): 30 V; Diode Type: Schottky; Library Ref: Diodo; Supplier Part Number 1: 755-RB060MM-30TFTR; Recovery Time: -; Library Control - Checked Schematic: Yes; Library Control - Last Update: 03/10/2021; Library Control - Person that Checked Schematic: Nícolas; Library Control - Person that did the Last Update Footprint: Nícolas; Library Control - Person that did the Last Update Schematic: Nícolas; Power Dissipation: -; Speed: -; Capacitance @ Vr, F: -; ComponentLink1Description: Datasheet; ComponentLink1URL: https://br.mouser.com/datasheet/2/348/ROHM_S_A0008264768_1-2562547.pdf; ComponentLink2Description: Mouser Link; ComponentLink2URL: https://br.mouser.com/ProductDetail/ROHM-Semiconductor/RB060MM-30TFTR?qs=4v%252BiZTmLVHF1Eij5vJhrNg%3D%3D
footprint DIODO_SOD-123-FL
pins: A, C

## RBR2MM40BTR
designator D?
DIODE SCHOTTKY 40V 2A SOD-123FL-2; Manufacturer: ROHM Semiconductor; Max Forward Surge Current (Ifsm): 30 A; Current - Reverse Leakage @ Vr: 80 uA @ 40V; Voltage - Forward (Vf) (Max) @ If: 560 mV @ 2A; Library Control - Person that did the Last Update Schematic: Maria Laura; Supplier 1: Mouser; Part Number: RBR2MM40BTR; Category: Schottky Diodes & Rectifiers; Price: 1=0,5; 10=0,414; 100=0,282; Package / Case: SOD-123FL-2; Current - Average Rectified (Io): 2 A; Operating Temperature: - 55 C ~ + 150 C; Voltage - DC Reverse (Vr) (Max): 40 V; Diode Type: Schottky; Library Ref: Diodo/Led; Supplier Part Number 1: 755-RBR2MM40BTR; Library Control - Last Update: 07/10/2022 17:54; ComponentLink1Description: Mouser Link; ComponentLink1URL: https://br.mouser.com/ProductDetail/?qs=sErY3DeL0TgU%252BzPQs2wkpg%3D%3D; ComponentLink2Description: Datasheet; ComponentLink2URL: https://br.mouser.com/datasheet/2/348/rbr2mm40btr_e-1870596.pdf
footprint DIODO_SOD-123FL-2
pins: A, C

## SB53AFC-AU_R1_000A1
designator D?
DIODE SCHOTTKY 30V 5A SMA-2; Manufacturer: Panjit; Current - Average Rectified (Io): 2 A; Current - Reverse Leakage @ Vr: 100uA @ 30V; Voltage - Forward (Vf) (Max) @ If: 540mV @ 5A; Library Control - Checked Footprint: Yes; Library Control - Person that Checked Footprint: Pierre; Capacitance @ Vr, F: 100pF @ (Vr = 4V/ 1MHz); Supplier 1: Mouser; Part Number: SB53AFC-AU_R1_000A1; Category: Schottky Diodes & Rectifiers; Price: -; Package / Case: SMA-2; Operating Temperature: -55°C ~ +150°C; Max Forward Surge Current (Ifsm): 5 A; Voltage - DC Reverse (Vr) (Max): 30 V; Diode Type: Schottky; Library Ref: Diodo/Led; Supplier Part Number 1: 241-SB53AFCAUR1000A1; Library Control - Checked Schematic: Yes; Library Control - Last Update: 03/03/2022 17:00; Library Control - Person that Checked Schematic: Pierre; Power Dissipation: -; Speed: -; ComponentLink1Description: Datasheet; ComponentLink1URL: https://br.mouser.com/datasheet/2/1057/SS2020FL_AU_SERIES-2887322.pdf; ComponentLink2Description: Mouser Link; ComponentLink2URL: https://br.mouser.com/ProductDetail/Panjit/SB53AFC-AU_R1_000A1?qs=Rp5uXu7WBW%2FLXVjXn%252BokkQ%3D%3D
footprint SMA-2 (Molded Diode, 2-Leads, Body 2,80x1,80mm, IPC Medium Density)
pins: A, C

## SBRT20U50SLPQ-13
designator D?
DIODE SCHOTTKY 50V 20A PowerDI5060-8; Manufacturer: DIODES; Current - Average Rectified (Io): 10 A; Max Forward Surge Current (Ifsm): 150 A; Current - Reverse Leakage @ Vr: 13 mA @ 100 V; Voltage - Forward (Vf) (Max) @ If: 950 mV @ 10 A, 25ºC; Voltage - DC Reverse (Vr) (Max): 100 V; Supplier 1: Mouser; Part Number: SBRT20U50SLPQ-13; Category: Schottky Diodes & Rectifiers; Price: 1 = 1.16; 10 = 1.04; 100 = 0.81 (USD); Package / Case: SO−8 FL; Operating Temperature: -55ºC ~ +175ºC; Diode Type: Schottky; Library Ref: Diodo/Led; Supplier Part Number 1: 621-SBRT20U50SLPQ-13; ComponentLink1Description: Datasheet; ComponentLink1URL: https://octopart.com/datasheet/sbrt25u80slp-13-diodes+inc.-39053610; ComponentLink2Description: Mouser Link; ComponentLink2URL: https://br.mouser.com/ProductDetail/Diodes-Incorporated/SBRT20U50SLPQ-13?qs=IvkZ4pJZlB1IjzBTgRaX%252BQ%3D%3D
footprint POWERDI5060-8
pins: A, C

## SK53AFL-TP
designator D?
DIODE SCHOTTKY 30V 5A DO-221AC-2; Manufacturer: Micro Commercial Components (MCC); Current - Average Rectified (Io): 20 A; Max Forward Surge Current (Ifsm): 100 A; Voltage - Forward (Vf) (Max) @ If: 550 mV @ 5A; Library Control - Person that Checked Footprint: Raquel; Supplier 1: Mouser; Part Number: SK53AFL-TP; Category: Schottky Diodes & Rectifiers; Price: 1= 0,38, 10= 0,31, 100= 0,212 (USD); Package / Case: DO-221AC-2; Operating Temperature: -55C ~ +125C; Voltage - DC Reverse (Vr) (Max): 30V; Diode Type: Schottky; Library Ref: Diodo/Led; Supplier Part Number 1: 833-SK53AFL-TP; Recovery Time: -; Library Control - Last Update: 10/10/2021; Power Dissipation: -; Speed: -; ComponentLink1Description: Mouser Link; ComponentLink1URL: https://br.mouser.com/ProductDetail/Micro-Commercial-Components-MCC/SK53AFL-TP?qs=T3oQrply3y%2F%2FTb8lb%252B6EMA%3D%3D; ComponentLink2Description: Datasheet; ComponentLink2URL: https://br.mouser.com/datasheet/2/258/SK52AFL_SK5200AFL_DO_221AC_-2510851.pdf
footprint DIODO-DO-221AC-2 (SODFL, 2-Leads, Body 2,60x5,00mm, IPC Medium Density)
pins: A, C

## SL44-E3/57T
designator D?
DIODE SCHOTTKY 40V DO-214AB; Manufacturer: Vishay; Current - Average Rectified (Io): 4 A; Max Forward Surge Current (Ifsm): 150 A; Current - Reverse Leakage @ Vr: 500 uA; Voltage - Forward (Vf) (Max) @ If: 500 mV; Diode Type: Schottky Diode; Library Control - Checked Footprint: yes; Library Control - Last Project that Used: Fujin-MK1; Library Control - Person that Checked Footprint: Guilherme; Supplier 1: Mouser; Part Number: SL44-E3/57T; Category: Schottky Diodes & Rectifiers; Price: 1 = 0,84, 10 = 0,709, 100 = 0,577 (USD); Package / Case: SMC (DO-214AB); Operating Temperature: - 55ºC ~ 125ºC; Voltage - DC Reverse (Vr) (Max): 40 V; Library Ref: Diode; Supplier Part Number 1: 625-SL44-E3; Library Control - Checked Schematic: yes; Library Control - Last Update: 17/07/2021 18:48; Library Control - Person that Checked Schematic: Guilherme; Library Control - Person that did the Last Update Footprint: Guilherme; Library Control - Person that did the Last Update Schematic: Guilherme; ComponentLink1Description: Mouser Link; ComponentLink1URL: https://br.mouser.com/ProductDetail/Vishay-General-Semiconductor/SL44-E3-57T?qs=%2Fha2pyFaduizMBiLvVjYmSaUplGGxlu4W6bkybqxhMlDrFlDjI%252B%2FXw%3D%3D; ComponentLink2Description: Datasheet; ComponentLink2URL: https://br.mouser.com/datasheet/2/427/sl42-1768381.pdf
footprint DIOM7959X262N
pins: A, C

## SMA6F70A-M3/H
designator D?
DIODE TVS 70V DO-221AC; Manufacturer: Vishay; Current - Reverse Leakage @ Vr: 0.2 (25ºC) / 1.0 uA (85ºC) @ 70V; Library Control - Checked Footprint: yes; Library Control - Person that Checked Footprint: Lucas; Library Control - Person that did the Last Update Schematic: Stéfany (Ster); Power Dissipation: 1W (25ºC)/ 8W (55ºC); Capacitance @ Vr, F: 60pF @ 70V, 1MHz; Supplier 1: Mouser; Part Number: SMA6F70A-M3/H; Category: ESD Suppressors / TVS Diodes; Price: 1 = 0.38; 10 = 0.31 100 = 0.212; 500 = 0.159; 1000 = 0.119 (USD); Package / Case: DO-221AC; Current - Average Rectified (Io): -; Operating Temperature: -55ºC ~ +175ºC; Max Forward Surge Current (Ifsm): -; Voltage - Forward (Vf) (Max) @ If: -; Voltage - DC Reverse (Vr) (Max): -; Diode Type: TVS; Library Ref: Diodo/Led; Supplier Part Number 1: 78-SMA6F70A-M3/H; Recovery Time: -; Library Control - Checked Schematic: yes; Library Control - Last Update: 23/06/2021 15:00; Library Control - Person that Checked Schematic: Lucas; Library Control - Person that did the Last Update Footprint: Lucas; Speed: -; ComponentLink1Description: Mouser Link; ComponentLink1URL: https://br.mouser.com/ProductDetail/Vishay-General-Semiconductor/SMA6F70A-M3-H?qs=BJlw7L4Cy7%252BUiCRkuz%252Bm5w%3D%3D; ComponentLink2Description: Datasheet; ComponentLink2URL: https://br.mouser.com/datasheet/2/427/sma6f5-1768490.pdf
footprint DIODO_DO-221AC
pins: A, C

## SMBJ8.0A-Q
designator D?
DIODE TVS 13.6 V 1mA DO-214AA-2; Manufacturer: Bourns; Breakdown Voltage: 8.89~ 9.83 V; Maximum Clamping Voltage: 13.6 V; Maximum Peak Pulse Current: 44.2 A; Library Control - Checked Footprint: yes; Library Control - Person that Checked Footprint: Cage; Library Control - Person that did the Last Update Footprint: Firme; Power Dissipation: 600W; Supplier 1: Mouser; Part Number: SMBJ8.0A-Q; Category: TVS diode; Price: 1 =0.48, 10 = 0.398, 100 = 0.271 (USD); Package / Case: DO-214AA-2; Current - Average Rectified (Io): 1mA; Operating Temperature: -55C~150C; Diode Type: TVS; Library Ref: Diodo; Supplier Part Number 1: 652-SMBJ8.0A-Q; Library Control - Checked Schematic: yes; Library Control - Last Update: 02/08/22; Library Control - Person that Checked Schematic: Cage; Library Control - Person that did the Last Update Schematic: Firme; ComponentLink1Description: Mouser Link; ComponentLink1URL: https://www.mouser.com/ProductDetail/Bourns/SMBJ8.0A-Q?qs=T94vaHKWudTOnwxWoNxZag%3D%3D; ComponentLink2Description: Datasheet; ComponentLink2URL: https://www.mouser.com/datasheet/2/54/smbj_q-1919912.pdf
footprint DIODO_DO-214AA-2
pins: A, C

## SMBJ17CA-Q
designator D?
DIODE TVS 27.6V 1mA DO-214AA-2; Manufacturer: Bourns; Breakdown Voltage: 18.9V~20.9V; Maximum Peak Pulse Current: 109A; Library Control - Checked Footprint: yes; Library Control - Person that did the Last Update Footprint: Raquel; Supplier 1: Mouser; Part Number: SMBJ17CA-Q; Category: TVS diode; Price: 1 = 0,45, 10 = 0,392. 100 = 0,293 (USD); Package / Case: DO-214AA-2; Current - Average Rectified (Io): 1mA; Operating Temperature: -55C~150C; Maximum Clamping Voltage: 27.6V; Diode Type: TVS; Library Ref: Diodo; Supplier Part Number 1: 652-SMBJ17CA-Q; Library Control - Checked Schematic: yes; Library Control - Last Update: 11/07/21; Library Control - Person that did the Last Update Schematic: Raquel; Power Dissipation: -; ComponentLink1Description: Mouser Link; ComponentLink1URL: https://www.mouser.com/ProductDetail/Bourns/SMBJ17CA-Q?qs=f9yNj16SXrK%2FY0MnWVExpA%3D%3D; ComponentLink2Description: Datasheet; ComponentLink2URL: https://www.mouser.com/datasheet/2/54/smbj_q-1281654.pdf
footprint DIODO_DO-214AA-2
pins: A, C

## SMBJ26CA
designator D?
DIODE TVS 26V 14.2A DO-214AA-2; Manufacturer: Bourns; Voltage - Forward (Vf) (Max) @ If: 3.5 V; Library Control - Checked Footprint: No; Library Control - Person that did the Last Update Footprint: Dalarme; Library Control - Person that did the Last Update Schematic: Stéfany (Ster); Power Dissipation: 5 W; Supplier 1: Mouser; Part Number: SMBJ26CA; Category: ESD Suppressors / TVS Diodes; Price: 1 = 0,51, 10 = 0,385, 100 = 0,24 (USD); Package / Case: DO-214AA-2; Operating Temperature: - 55ºC ~ 150ºC; Diode Type: TVS; Library Ref: Diode; Supplier Part Number 1: 652-SMBJ26CA; Library Control - Checked Schematic: No; Library Control - Last Update: 13/06/2021 13:28; ComponentLink1Description: Datasheet; ComponentLink1URL: https://www.mouser.com/datasheet/2/54/smbj-778392.pdf; ComponentLink2Description: Mouser Link; ComponentLink2URL: https://www.mouser.com/ProductDetail/Bourns/SMBJ26CA?qs=d7fLapxX37HbHh%2F2mA%2FLqg==
footprint DIODO_DO-214AA-2
pins: A, C

## SMCJ16A
designator D?
DIODE TVS 16V 60A DO-214AB-2; Manufacturer: Taiwan Semiconductor; Manufacturer Part Number: SMCJ16A; Pirce: 1=0.93, 10=0.819, 100=0.628 [USD]; Max Forward Surge Current (Ifsm): 200 A; Current - Reverse Leakage @ Vr: 1 uA; Voltage - Forward (Vf) (Max) @ If: 3.5 V; Library Control - Checked Footprint: Yes; Library Control - Person that Checked Footprint: Juliana; Supplier 1: Mouser; Category: ESD Suppressors / TVS Diodes; Package / Case: DO-214AB-2; Current - Average Rectified (Io): 60 A; Operating Temperature: -55°C ~ +150°C; Diode Type: TVS; Library Ref: Diode; Supplier Part Number 1: 821-SMCJ16A; Library Control - Checked Schematic: Yes; Library Control - Last Update: 15/08/2022; Library Control - Person that Checked Schematic: Juliana; Library Control - Person that did the Last Update Footprint: Juliana; Library Control - Person that did the Last Update Schematic: Juliana; Power Dissipation: *; Speed: *; Capacitance @ Vr, F: *; ComponentLink1Description: Mouser Link; ComponentLink1URL: https://br.mouser.com/ProductDetail/Taiwan-Semiconductor/SMCJ16A?qs=tHU%2FlV7kTySNwKp6E5d1YQ%3D%3D; ComponentLink2Description: Datasheet; ComponentLink2URL: https://br.mouser.com/datasheet/2/395/SMCJ_SERIES_S2104-2821849.pdf
footprint DIODO_DO-214AB
pins: A, C

## SMCJ26CA
designator D?
DIODE TVS 26V 5uA DO-214AB-2; Manufacturer: Bourns; Manufacturer Part Number: 652-SMCJ26CA; Pirce: 1=0.70, 10=0.598, 100=0.447 [USD]; Current - Reverse Leakage @ Vr: 1 uA; Voltage - Forward (Vf) (Max) @ If: 3.5V; Library Control - Checked Footprint: Yes; Library Control - Person that Checked Footprint: Juliana; Supplier 1: Mouser; Category: Diode; Package / Case: DO-214AB-2; Current - Average Rectified (Io): 5uA; Operating Temperature: -55°C ~ + 150°C; Voltage - DC Reverse (Vr) (Max): 26 V; Diode Type: TVS; Library Ref: Diode; Supplier Part Number 1: SMCJ26CA; Library Control - Checked Schematic: Yes; Library Control - Last Update: 12/08/2022; Library Control - Person that Checked Schematic: Juliana; Library Control - Person that did the Last Update Footprint: Juliana; Library Control - Person that did the Last Update Schematic: Juliana; Power Dissipation: *; Speed: *; Capacitance @ Vr, F: *; ComponentLink1Description: Mouser Link; ComponentLink1URL: https://br.mouser.com/ProductDetail/Bourns/SMCJ26CA?qs=NMatY7cgvvYzEuou9iW8nA%3D%3D; ComponentLink2Description: Datasheet; ComponentLink2URL: https://br.mouser.com/datasheet/2/54/SMCJ-778393.pdf
footprint DIODO_DO-214AB
pins: A, C

## SMF18VTFTR
designator D?  (value not drawn)
DIODE TVS 18V SOD-123FL-2; Manufacturer: ROHM Semiconductor; Current - Reverse Leakage @ Vr: 0,1A @ 18V; Voltage - Forward (Vf) (Max) @ If: 18V @; Library Control - Checked Schematic: Yes; Library Control - Person that Checked Footprint: Stéfany (Ster); Library Control - Person that did the Last Update Schematic: Maria Laura; Power Dissipation: 1W (25ºC); Supplier 1: Mouser; Part Number: SMF18VTFTR; Category: ESD Suppressors / TVS Diodes; Price: 1 = 0.43; 10 = 0.351; 100 = 0.239 (USD); Package / Case: SOD-123FL-2; Current - Average Rectified (Io): -; Operating Temperature: -65ºC ~ +150ºC; Max Forward Surge Current (Ifsm): -; Voltage - DC Reverse (Vr) (Max): -; Diode Type: TVS; Library Ref: Diodo/Led; Supplier Part Number 1: 755-SMF18VTFTR; Recovery Time: -; Library Control - Last Project that Used: Yes; Library Control - Last Update: 04/10/2021 17:11; Library Control - Person that Checked Schematic: Stéfany (Ster); Library Control - Person that did the Last Update Footprint: Stéfany (Ster); Speed: -; Capacitance @ Vr, F: -; ComponentLink1Description: Mouser Link; ComponentLink1URL: https://br.mouser.com/ProductDetail/ROHM-Semiconductor/SMF18VTFTR?qs=%2Fha2pyFaduh9hmQeYEPH1iRN4FEAkOMmwqZCSBKe5gWkypGTtPUOmA%3D%3D; ComponentLink2Description: Datasheet; ComponentLink2URL: https://4donline.ihs.com/images/VipMasterIC/IC/ROHM/ROHM-S-A0008268259/ROHM-S-A0008268259-1.pdf?hkey=CECEF36DEECDED6468708AAF2E19C0C6
footprint DIODO_SOD-123FL-2
pins: A, C